# Altium footprint library CR2032 battery holder.PcbLib: 1 footprints
Each footprint in its own frame and in the unit in brackets; x right, y up, seen from the top. Pads: shape width x height; smd on the part's side, far side on the other; paste and mask are expansions set on the pad; w line width, h text height; cw(c..) or ccw(c..) is an arc to the next point about the centre after c.
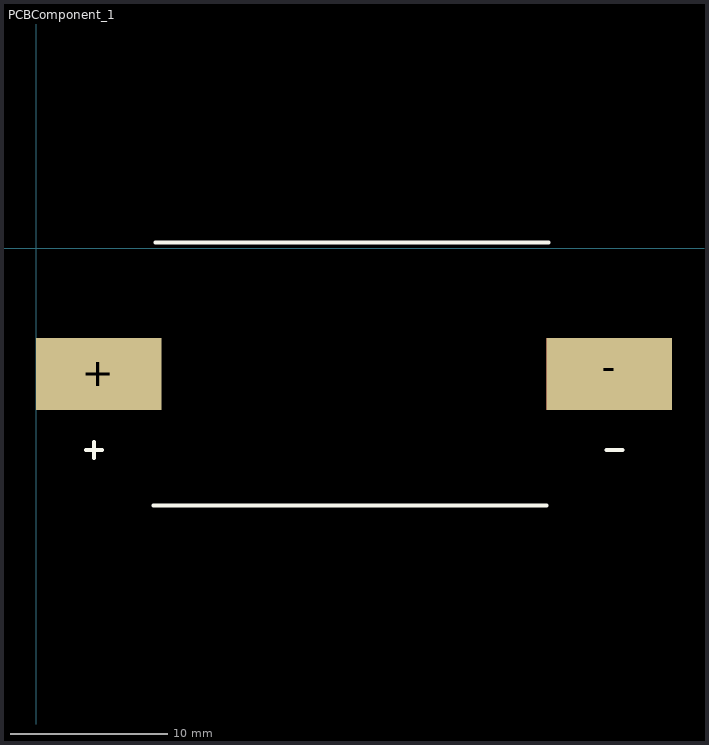
[diagram p0: the footprint, top view; thin cyan lines are the x and y axes]

## PCBComponent_1 [mil]
pads (2):
  rect 315x180 smd: +(157,-315) -(1437,-315)
Top Layer:
  rectangle: 1280,-405 1595,-225
Top Overlay:
  lines w10: 125,-505 165,-505 ; 145,-525 145,-485 ; 295,-645 1280,-645 ; 300,15 1285,15 ; 1430,-505 1470,-505